# Altium schematic symbol library 三极管.SchLib: 39 symbols
Pins are listed as number, name and electrical type; pins without a type are passive.

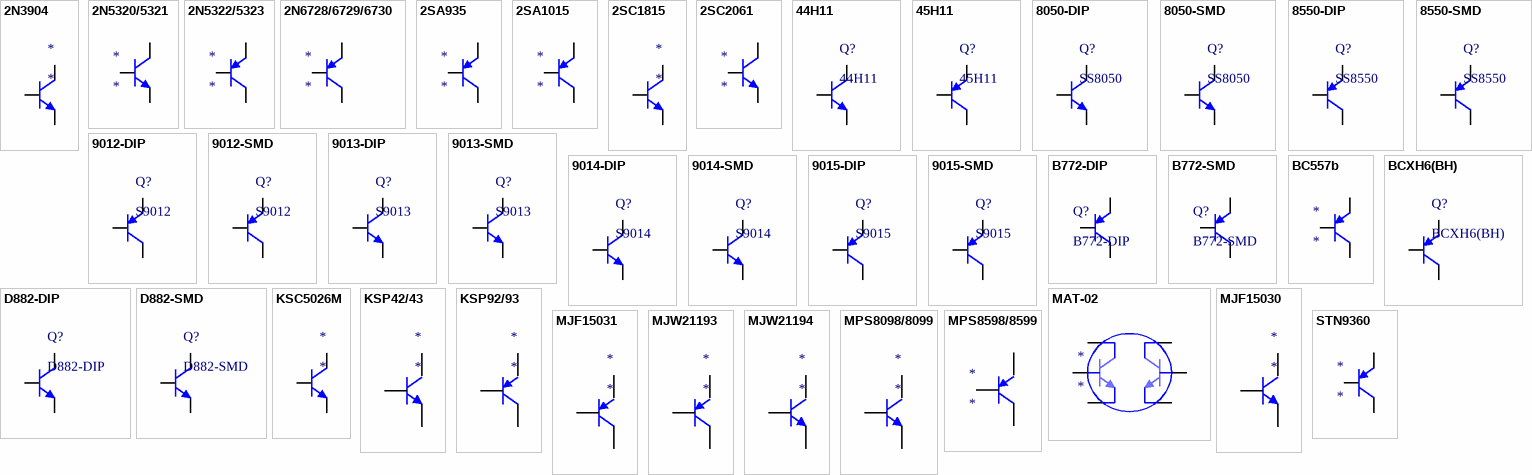
[diagram p0: symbols 2N3904 to STN9360]

## 2N3904
designator *
通用三极管NPN型 40v 200ma
footprint TO92A; pin to pad 2>3 3>2
footprint TO92C; pin to pad 2>3 3>2
footprint TO92A_SmallHole; pin to pad 2>3 3>2
footprint TO92A_SmallPad; pin to pad 2>3 3>2
pins: 1 E, 2 C, 3 B

## 2N5320/5321
designator *
中功率放大-NPN型 100V/1.2a
footprint TO39; pin to pad 2>3 3>2
footprint TO39_SMALLHOLE; pin to pad 2>3 3>2
pins: 1 E, 2 C, 3 B

## 2N5322/5323
designator *
中功率放大-PNP型 100V/1.2a
footprint TO39; pin to pad 2>3 3>2
footprint TO39_SMALLHOLE; pin to pad 2>3 3>2
pins: 1 E, 2 C, 3 B

## 2N6728/6729/6730
designator *
中功率放大-PNP型
footprint TO92A; pin to pad 2>3 3>2
footprint TO92B; pin to pad 2>3 3>2
footprint TO92C; pin to pad 2>3 3>2
footprint TO92A_SmallHole; pin to pad 2>3 3>2
pins: 1 E, 2 C, 3 B

## 2SA935
designator *
音频功放-PNP型 50V/500ma
footprint TO92A
footprint TO92A_SmallHole
pins: 1 E, 2 C, 3 B

## 2SA1015
designator *
音频放大-PNP型
footprint TO92A
footprint TO92C
footprint TO92A_SmallHole
pins: 1 E, 2 C, 3 B

## 2SC1815
designator *
音频放大-NPN型
footprint TO92A
footprint TO92C
footprint TO92A_SmallHole
footprint TO92A_SmallPad
pins: 1 E, 2 C, 3 B

## 2SC2061
designator *
音频放大-NPN型 50V/500ma
footprint TO92A
footprint TO92A_SmallHole
pins: 1 E, 2 C, 3 B

## 44H11
designator Q?
互补功率-NPN型; 版权归属: 源创客; 属性: 80V 8A 50W; BOM名称: 互补功率-NPN型; 学习资源: www.ooocke.com
footprint TO252 (252晶体管)
footprint TO251A (251，3脚晶体管)
footprint TO251B (251，3脚晶体管)
pins: 1 B, 2 C, 3 E

## 45H11
designator Q?
互补功率-PNP型; 版权归属: 源创客; 属性: 80V 8A 50W; BOM名称: 互补功率-PNP型; 学习资源: www.ooocke.com
footprint TO252 (252晶体管)
footprint TO251A (251，3脚晶体管)
footprint TO251B (251，3脚晶体管)
pins: 1 B, 2 C, 3 E

## 8050-DIP
designator Q?, comment SS8050
高频放大-NPN型; 版权归属: 源创客; 属性: 40V 1.5A 1W 100MHZ; BOM名称: 高频放大-NPN型; 学习资源: www.ooocke.com
footprint TO92A (92晶体管)
footprint TO92B (92晶体管)
pins: 1 E, 2 B, 3 C

## 8050-SMD
designator Q?, comment SS8050
高频放大-NPN型; 版权归属: 源创客; 属性: 40V 1.5A 1W 100MHZ; BOM名称: 高频放大-NPN型; 学习资源: www.ooocke.com
footprint SOT23-3N (3x1.3x1mm(长宽高))
footprint SOT23-3L (3x1.3x1mm(长宽高))
footprint SOT23-3M (3x1.3x1mm(长宽高))
pins: 1 B, 2 E, 3 C

## 8550-DIP
designator Q?, comment SS8550
高频放大-PNP型; 版权归属: 源创客; 属性: 40V 1.5A 1W 100MHZ; BOM名称: 高频放大-PNP型; 学习资源: www.ooocke.com
footprint TO92A (92晶体管)
footprint TO92B (92晶体管)
pins: 1 E, 2 B, 3 C

## 8550-SMD
designator Q?, comment SS8550
高频放大-PNP型; 版权归属: 源创客; 属性: 40V 1.5A 1W 100MHZ; BOM名称: 高频放大-PNP型; 学习资源: www.ooocke.com
footprint SOT23-3N (3x1.3x1mm(长宽高))
footprint SOT23-3L (3x1.3x1mm(长宽高))
footprint SOT23-3M (3x1.3x1mm(长宽高))
pins: 1 B, 2 E, 3 C

## 9012-DIP
designator Q?, comment S9012
低频放大-PNP型; 版权归属: 源创客; 属性: 50V 0.5A 0.625W; BOM名称: 低频放大-PNP型; 学习资源: www.ooocke.com
footprint TO92A (92晶体管)
footprint TO92B (92晶体管)
pins: 1 E, 2 B, 3 C

## 9012-SMD
designator Q?, comment S9012
低频放大-PNP型; 版权归属: 源创客; 属性: 50V 0.5A 0.625W; BOM名称: 低频放大-PNP型; 学习资源: www.ooocke.com
footprint SOT23-3N (3x1.3x1mm(长宽高))
footprint SOT23-3L (3x1.3x1mm(长宽高))
footprint SOT23-3M (3x1.3x1mm(长宽高))
pins: 1 B, 2 E, 3 C

## 9013-DIP
designator Q?, comment S9013
低频放大-NPN型; 版权归属: 源创客; 属性: 50V 0.5A 0.625W; BOM名称: 低频放大-NPN型; 学习资源: www.ooocke.com
footprint TO92A (92晶体管)
footprint TO92B (92晶体管)
pins: 1 E, 2 B, 3 C

## 9013-SMD
designator Q?, comment S9013
低频放大-NPN型; 版权归属: 源创客; 属性: 50V 0.5A 0.625W; BOM名称: 低频放大-NPN型; 学习资源: www.ooocke.com
footprint SOT23-3N (3x1.3x1mm(长宽高))
footprint SOT23-3L (3x1.3x1mm(长宽高))
footprint SOT23-3M (3x1.3x1mm(长宽高))
pins: 1 B, 2 E, 3 C

## 9014-DIP
designator Q?, comment S9014
低噪放大-NPN型; 版权归属: 源创客; 属性: 50V 0.1A 0.4W 150MHZ; BOM名称: 低噪放大-NPN型; 学习资源: www.ooocke.com
footprint TO92A (92晶体管)
footprint TO92B (92晶体管)
pins: 1 E, 2 B, 3 C

## 9014-SMD
designator Q?, comment S9014
低噪放大-NPN型; 版权归属: 源创客; 属性: 50V 0.1A 0.4W 150MHZ; BOM名称: 低噪放大-NPN型; 学习资源: www.ooocke.com
footprint SOT23-3N (3x1.3x1mm(长宽高))
footprint SOT23-3L (3x1.3x1mm(长宽高))
footprint SOT23-3M (3x1.3x1mm(长宽高))
pins: 1 B, 2 E, 3 C

## 9015-DIP
designator Q?, comment S9015
低噪放大-PNP型; 版权归属: 源创客; 属性: 50V 0.1A 0.4W 150MHZ; BOM名称: 低噪放大-PNP型; 学习资源: www.ooocke.com
footprint TO92A (92晶体管)
footprint TO92B (92晶体管)
pins: 1 E, 2 B, 3 C

## 9015-SMD
designator Q?, comment S9015
低噪放大-PNP型; 版权归属: 源创客; 属性: 50V 0.1A 0.4W 150MHZ; BOM名称: 低噪放大-PNP型; 学习资源: www.ooocke.com
footprint SOT23-3N (3x1.3x1mm(长宽高))
footprint SOT23-3L (3x1.3x1mm(长宽高))
footprint SOT23-3M (3x1.3x1mm(长宽高))
pins: 1 B, 2 E, 3 C

## B772-DIP
designator Q?
音频功放-PNP型; 版权归属: 源创客; 属性: 40V 3A 10W; BOM名称: 音频功放-PNP型; 学习资源: www.ooocke.com
footprint TO126 (126晶体管)
pins: 1 E, 2 C, 3 B

## B772-SMD
designator Q?
音频功放-PNP型; 版权归属: 源创客; 属性: 40V 3A 10W; BOM名称: 音频功放-PNP型; 学习资源: www.ooocke.com
footprint SOT89_N (4.6x4.3x1.6mm(长宽高))
footprint SOT89_M (4.6x4.3x1.6mm(长宽高))
footprint SOT89_L (4.6x4.3x1.6mm(长宽高))
pins: 1 B, 2 C, 3 E

## BC557b
designator *
音频放大-PNP型
footprint TO92A; pin to pad 1>3 2>1 3>2
footprint TO92C; pin to pad 1>3 2>1 3>2
footprint TO92A_SmallHole; pin to pad 1>3 2>1 3>2
pins: 1 E, 2 C, 3 B

## BCXH6(BH)
designator Q?
PNP型三极管; BOM名称: NPN型三极管; 版权归属: 源创客; 学习资源: www.ooocke.com
footprint SOT89_N (4.6x4.3x1.6mm(长宽高))
footprint SOT89_L (4.6x4.3x1.6mm(长宽高))
footprint SOT89_M (4.6x4.3x1.6mm(长宽高))
pins: 1 B, 2 C, 3 E

## D882-DIP
designator Q?
音频功放-NPN型; 版权归属: 源创客; 属性: 40V 3A 30W; BOM名称: 音频功放-NPN型; 学习资源: www.ooocke.com
footprint TO126 (126晶体管)
pins: 1 E, 2 C, 3 B

## D882-SMD
designator Q?
音频功放-NPN型; 版权归属: 源创客; 属性: 40V 3A 30W; BOM名称: 音频功放-NPN型; 学习资源: www.ooocke.com
footprint SOT89_N (4.6x4.3x1.6mm(长宽高))
footprint SOT89_L (4.6x4.3x1.6mm(长宽高))
footprint SOT89_M (4.6x4.3x1.6mm(长宽高))
pins: 1 B, 2 C, 3 E

## KSC5026M
designator *
High Speed Switch -NPN型
footprint TO126V
pins: 1 E, 2 C, 3 B

## KSP42/43
designator *
High Voltage NPN Transistor
footprint TO92A
pins: 1 E, 2 B, 3 C

## KSP92/93
designator *
High Voltage PNP Transistor
footprint TO92A
pins: 1 E, 2 B, 3 C

## MAT-02
designator *
孪生对管-NPN型 40V/20ma
footprint TO78
footprint TO78_SMALLHOLE
footprint DIP-8 (DIP; 8 Leads; Row Spacing 7.62 mm; Pitch 2.54 mm); pin to pad 5>6 6>7 7>8
pins: 1 C, 2 B, 3 E, 5 E, 6 B, 7 C

## MJF15030
designator *
Power NPN Transistor
footprint TO220V
pins: 1 B, 2 C, 3 E

## MJF15031
designator *
Power PNP Transistor
footprint TO220V
pins: 1 B, 2 C, 3 E

## MJW21193
designator *
Power PNP Transistor
footprint TO247V
footprint TO247V-HeatSink
pins: 1 B, 2 C, 3 E

## MJW21194
designator *
Power NPN Transistor
footprint TO247V
footprint TO247V-HeatSink
pins: 1 B, 2 C, 3 E

## MPS8098/8099
designator *
音频放大-NPN型
footprint TO92A; pin to pad 1>2 2>3 3>1
footprint TO92B; pin to pad 1>2 2>3 3>1
footprint TO92C; pin to pad 1>2 2>3 3>1
footprint TO92A_SmallHole; pin to pad 1>2 2>3 3>1
pins: 1 B, 2 C, 3 E

## MPS8598/8599
designator *
音频放大-PNP型
footprint TO92A; pin to pad 1>2 2>3 3>1
footprint TO92B; pin to pad 1>2 2>3 3>1
footprint TO92C; pin to pad 1>2 2>3 3>1
footprint TO92A_SmallHole; pin to pad 1>2 2>3 3>1
pins: 1 B, 2 C, 3 E

## STN9360
designator *
High Voltage fast switching PNP型 600v 500ma
footprint SOT223_L (SOT223, 4-Leads, Body 6.5x3.5mm, Pitch 2.3mm, Lead Span 7mm, IPC High Density); pin to pad 1>3 2>2+4 3>1
footprint SOT223_L_Bottom (SOT223, 4-Leads, Body 6.5x3.5mm, Pitch 2.3mm, Lead Span 7mm, IPC High Density); pin to pad 2>2+4
pins: 1 E, 2 C, 3 B